# EAGLE library part 50281-004 (library con-aces-50281-series)
ACES CONNECTORS 50281 SERIES ACES Connecors 50281
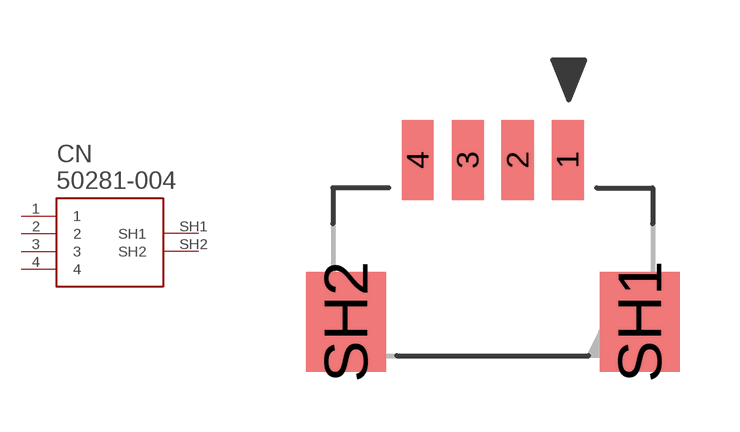
[diagram p0: symbol with the pads of 50281-004; footprint 50281-004]

Designator prefix CN

## 50281-004  [50281-004]
1  1
2  2
3  3
4  4
SH1  SH1
SH2  SH2

## Footprint 50281-004 (pad centres in mm)
smd 0.8 x 2: 1 1.875,1.9; 2 0.625,1.9; 3 -0.625,1.9; 4 -1.875,1.9
smd 2 x 2.5: SH1 3.675,-2.15; SH2 -3.675,-2.15